# EAGLE library part 0826-1X1T-GJ-F (library motorFeedback)
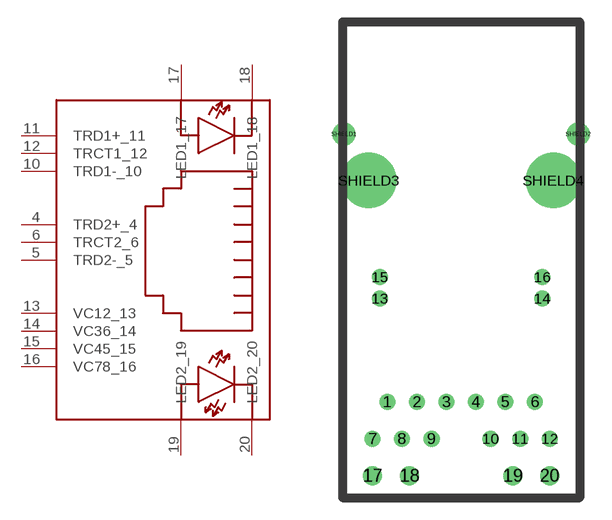
[diagram p31: symbol with the pads of MAGJACK-RJ45; footprint MAGJACK-RJ45]

Designator prefix -

## 0826-1X1T-GJ-F  [MAGJACK-RJ45]
4  TRD2+_4
5  TRD2-_5
6  TRCT2_6  in
10  TRD1-_10
11  TRD1+_11
12  TRCT1_12  in
13  VC12_13  in
14  VC36_14  in
15  VC45_15  in
16  VC78_16  in
17  LED1_17  in
18  LED1_18  in
19  LED2_19  in
20  LED2_20  in

## Footprint MAGJACK-RJ45 (pad centres in mm)
drill 0.6 pad 0.889: 1 -5.08,-15.24; 2 -3.048,-15.24; 3 -1.016,-15.24; 4 1.016,-15.24; 5 3.048,-15.24; 6 5.08,-15.24; 7 -6.096,-17.78; 8 -4.064,-17.78; 9 -2.032,-17.78; 10 2.032,-17.78; 11 4.064,-17.78; 12 6.096,-17.78; 13 -5.588,-8.128; 14 5.588,-8.128; 15 -5.588,-6.655; 16 5.588,-6.655
drill 0.8 pad 1.016: 17 -6.096,-20.32; 18 -3.556,-20.32; 19 3.556,-20.32; 20 6.096,-20.32
drill 1.016 pad 1.575: SHIELD1 -8.065,3.175; SHIELD2 8.065,3.175
drill 2.8 pad 3.251: SHIELD3 -6.35,0; SHIELD4 6.35,0